# Altium footprint library BioPrinter_Schematics.PcbLib: 10 footprints
Each footprint in its own frame and in the unit in brackets; x right, y up, seen from the top. Pads: shape width x height; smd on the part's side, far side on the other; paste and mask are expansions set on the pad; w line width, h text height; cw(c..) or ccw(c..) is an arc to the next point about the centre after c.
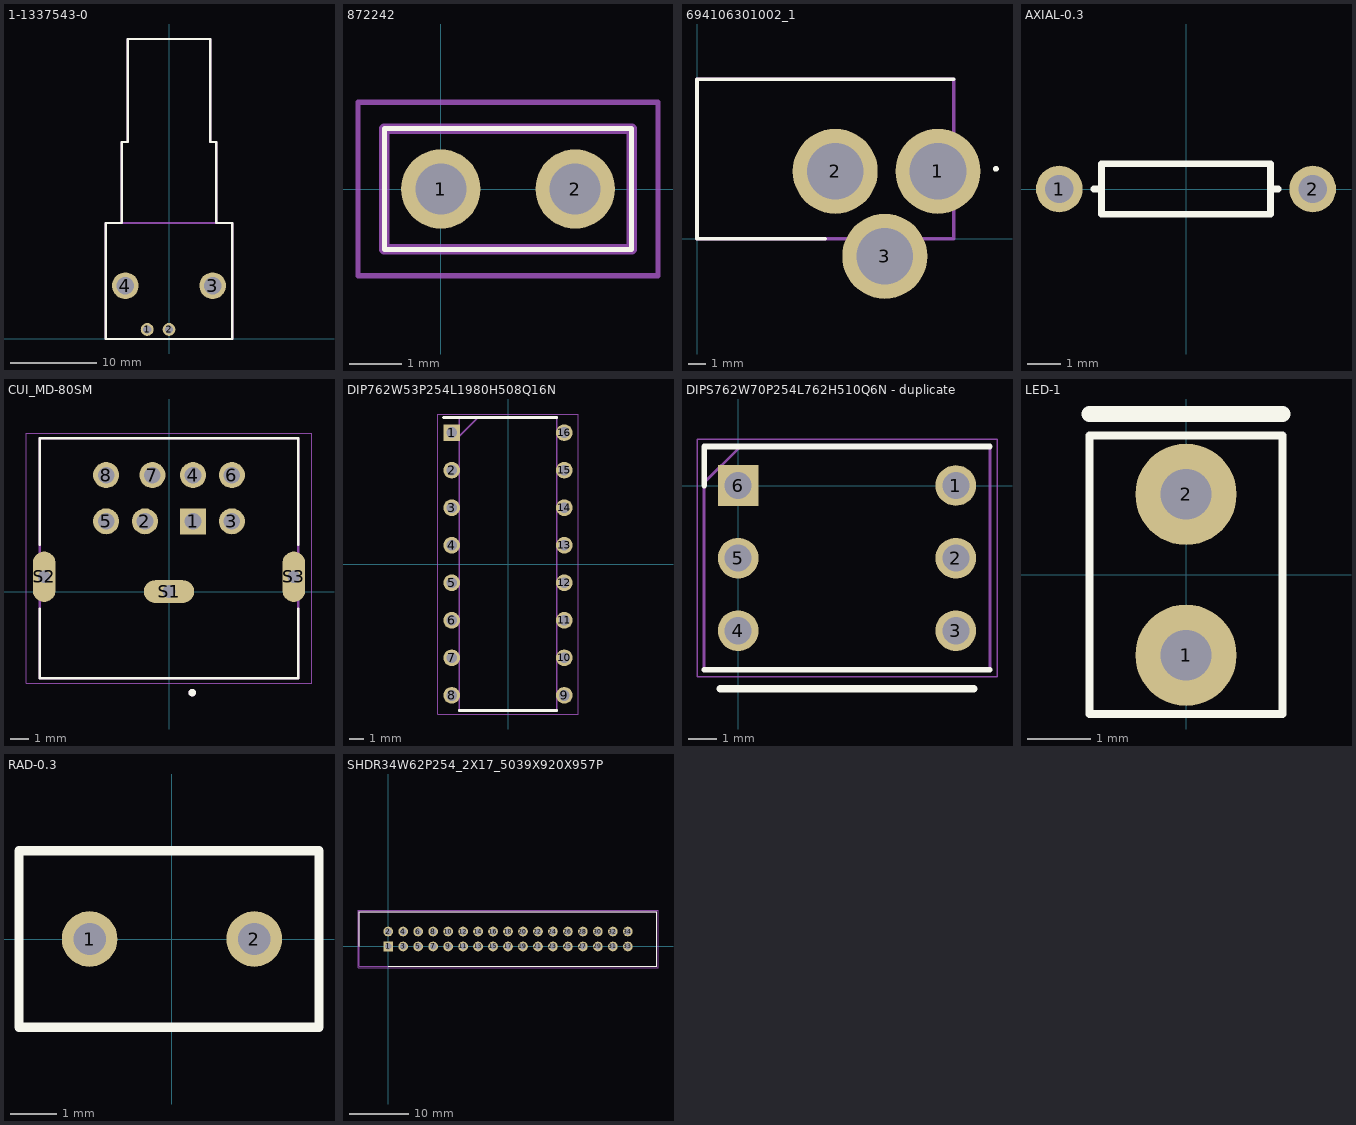
[diagram p0: the footprints below, top view; thin cyan lines are the x and y axes]

## 1-1337543-0 [mm]
pads (4):
  round 1.5 hole 0.97: 1(-2.54,1.112) 2(0,1.112)
  round 3.1 hole 2.06: 3(5.08,6.2) 4(-5.08,6.2)
Top Overlay:
  lines w0.254: -7.35,0 7.35,0 7.35,13.5 5.5,13.5 5.5,22.9 4.8,22.9 4.8,34.9 -4.8,34.9 -4.8,22.9 -5.5,22.9 -5.5,13.5 -7.35,13.5 -7.35,0
Mechanical 15:
  lines w0.254: -5.5,13.5 -5.5,22.9 -4.8,22.9 -4.8,34.9 4.8,34.9 4.8,22.9 5.5,22.9 5.5,13.5 ; -7.35,0 -7.35,13.5 7.35,13.5 7.35,0 -7.35,0
3D body "1-1337543-0.stp": height 5.8, standoff -4.65, extent -10,-3.376 10,3.376

## 872242 [mil]
pads (2):
  round 59.09 hole 38: 1(0,0) 2(100,0)
Top Overlay:
  lines w3.94: -42.01,-45 142.01,-45 142.01,45 -42.01,45 -42.01,-45
Mechanical 13:
  lines w7.87: -42.01,-45 142.01,-45 142.01,45 -42.01,45 -42.01,-45
Mechanical 15:
  lines w3.94: -61.69,-64.69 161.69,-64.69 161.69,64.69 -61.69,64.69 -61.69,-64.69
3D body "87224-2.stp": height 409.73, standoff -123.27, extent -42,-46 142,46

## 694106301002_1 [mm]
pads (3):
  round 4.8 hole 3.2: 1(13.6,3.8) 2(7.8,3.8) 3(10.6,-1)
Top Overlay:
  circle w0.2: c16.867,3.939 r0.064
  lines w0.2: 7.25,0 0,0 0,9 14.5,9
Mechanical 15:
  lines w0.2: 0,0 0,9 14.5,9 14.5,0 0,0
3D body "694106301002.stp": height 5.8, standoff -4.65, extent -10,-3.376 10,3.376

## AXIAL-0.3 [mm] "Axial Device, Thru-Hole; 2 Leads; 0.3 in Pin Spacing"
height 1.524
pads (2):
  round 1.4 hole 0.85: 1(-3.81,0) 2(3.81,0)
Top Overlay:
  lines w0.2: -2.769,0 -2.54,0 ; 2.769,0 2.54,0 ; 2.54,0 2.54,-0.762 -2.54,-0.762 -2.54,0.762 2.54,0.762 2.54,0

## CUI_MD-80SM [mm]
height 12.8
pads (11):
  rect 1.408x1.408 / inner round 1.408 / far side rect 1.408x1.408 hole 0.9: 1(1.3,3.8)
  round 1.408 hole 0.9: 2(-1.3,3.8) 3(3.4,3.8) 4(1.3,6.3) 5(-3.4,3.8) 6(3.4,6.3) 7(-0.9,6.3) 8(-3.4,6.3)
  oval 2.73x1.23 hole 0.7 square: S1(0,0)
  oval 1.23x2.73 hole 0.7 square: S2(-6.75,0.8) S3(6.75,0.8)
Top Overlay:
  circle w0.2: c1.257,-5.471 r0.1
  lines w0.127: -7,-0.915 -7,-4.7 7,-4.7 7,-0.915 ; -7,2.515 -7,8.3 7,8.3 7,2.515
Mechanical 13:
  circle w0.2: c1.257,-5.471 r0.1
  lines w0.127: -7,-4.7 -7,8.3 7,8.3 7,-4.7 -7,-4.7
Mechanical 15:
  lines w0.05: -7.715,-4.95 7.715,-4.95 7.715,8.55 -7.715,8.55 -7.715,-4.95
3D body: height 0.25, standoff 0, extent -7.025,-5.176 7.025,8.224

## DIP762W53P254L1980H508Q16N [mm]
pads (16):
  rect 1.13x1.13 hole 0.73: 1(-3.81,8.89)
  round 1.13 hole 0.73: 2(-3.81,6.35) 3(-3.81,3.81) 4(-3.81,1.27) 5(-3.81,-1.27) 6(-3.81,-3.81) 7(-3.81,-6.35) 8(-3.81,-8.89) 9(3.81,-8.89) 10(3.81,-6.35) 11(3.81,-3.81) 12(3.81,-1.27) 13(3.81,1.27) 14(3.81,3.81) 15(3.81,6.35) 16(3.81,8.89)
Top Overlay:
  lines w0.2: -4.375,9.9 3.3,9.9 ; -3.3,-9.9 3.3,-9.9
Mechanical 13:
  lines w0.1: -3.3,8.63 -2.03,9.9 ; -3.3,-9.9 3.3,-9.9 3.3,9.9 -3.3,9.9 -3.3,-9.9
Mechanical 15:
  lines w0.05: -4.75,-10.15 4.75,-10.15 4.75,10.15 -4.75,10.15 -4.75,-10.15
3D body "L293DNE.stp": height 5.08, standoff -3.5, extent -3.942,-9.9 3.942,9.9

## DIPS762W70P254L762H510Q6N - duplicate [mm]
pads (6):
  round 1.425 hole 0.95: 1(7.62,0) 2(7.62,-2.54) 3(7.62,-5.08) 4(0,-5.08) 5(0,-2.54)
  rect 1.425x1.425 hole 0.95: 6(0,0)
Top Overlay:
  lines w0.2: -1.19,-6.45 8.81,-6.45 ; -1.19,0 -1.19,1.37 8.81,1.37
  lines w0.254: -0.635,-7.112 8.255,-7.112
Mechanical 13:
  lines w0.1: -1.19,0.1 0.08,1.37 ; -1.19,-6.45 -1.19,1.37 8.81,1.37 8.81,-6.45 -1.19,-6.45
Mechanical 15:
  lines w0.05: -1.44,-6.7 -1.44,1.62 9.06,1.62 9.06,-6.7 -1.44,-6.7
3D body "1-2199298-1.stp": height 4.82, standoff -3.28, extent -1.19,-6.35 8.81,1.27

## LED-1 [mm] "LED; 2 Leads"
pads (2):
  round 1.6 hole 0.8: 1(0,-1.27) 2(0,1.27)
Top Overlay:
  lines w0.127: -1.524,-2.2 1.524,-2.2 1.524,2.2 -1.524,2.2 -1.524,-2.2
  lines w0.254: -1.524,2.54 1.524,2.54

## RAD-0.3 [mm] "Radial Cap, Thru-Hole; 2 Leads; 0.3 in Pin Spacing"
height 6
pads (2):
  round 1.2 hole 0.7: 1(-1.778,0) 2(1.778,0)
Top Overlay:
  lines w0.2: -3.302,-1.905 3.175,-1.905 3.175,1.905 -3.302,1.905 -3.302,-1.905

## SHDR34W62P254_2X17_5039X920X957P [mm]
pads (34):
  rect 1.65x1.65 hole 1.1: 1(0,0)
  round 1.65 hole 1.1: 2(0,2.54) 3(2.54,0) 4(2.54,2.54) 5(5.08,0) 6(5.08,2.54) 7(7.62,0) 8(7.62,2.54) 9(10.16,0) 10(10.16,2.54) 11(12.7,0) 12(12.7,2.54) 13(15.24,0) 14(15.24,2.54) 15(17.78,0) 16(17.78,2.54) 17(20.32,0) 18(20.32,2.54) 19(22.86,0) 20(22.86,2.54) 21(25.4,0) 22(25.4,2.54) 23(27.94,0) 24(27.94,2.54) 25(30.48,0) 26(30.48,2.54) 27(33.02,0) 28(33.02,2.54) 29(35.56,0) 30(35.56,2.54) 31(38.1,0) 32(38.1,2.54) 33(40.64,0) 34(40.64,2.54)
Top Overlay:
  lines w0.2: -4.875,0 -4.875,5.87 45.515,5.87 45.515,-3.33 0,-3.33
Mechanical 13:
  lines w0.1: -4.875,-3.33 45.515,-3.33 45.515,5.87 -4.875,5.87 -4.875,-3.33
Mechanical 15:
  lines w0.05: -5.125,-3.58 45.765,-3.58 45.765,6.12 -5.125,6.12 -5.125,-3.58
3D body "75869-106LF.stp": height 9.32, standoff -3.05, extent -4.875,-3.363 45.515,5.906